# Altium schematic symbol library Battery_Management.SchLib: 135 symbols (part 2 of 2)
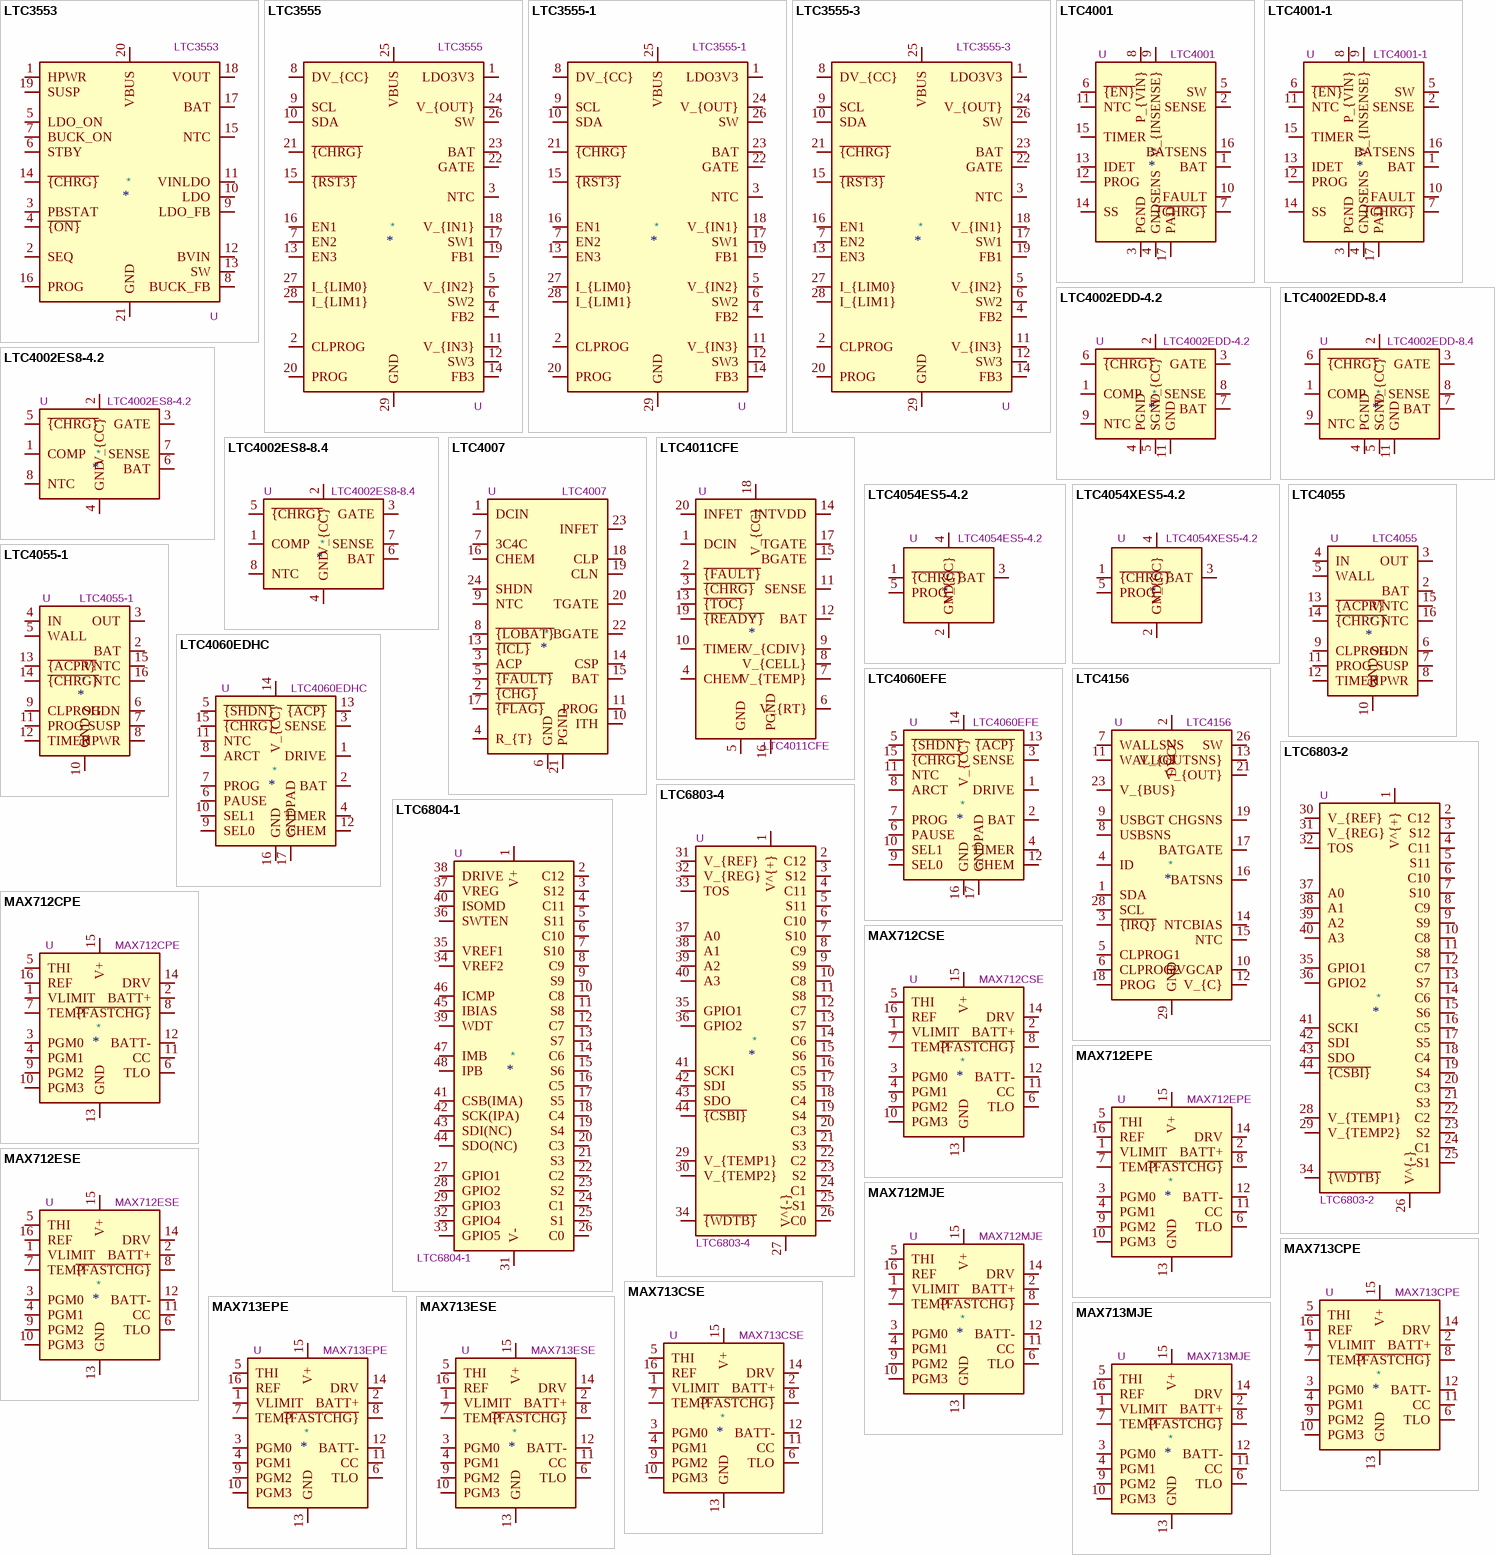
[diagram p5: symbols LTC3553 to MAX713MJE]

## MAX713EPE
designator *  value MAX713EPE  Reference: U
ki_keywords: battery charger controller; ki_description: Fast-charge Nickel Cadmium (NiCd) from a DC source, -40 to +85 Degree Celsius, PDIP-16; ki_fp_filters: DIP*W7.62mm*; Footprint: Package_DIP:DIP-16_W7.62mm; Datasheet: https://datasheets.maximintegrated.com/en/ds/MAX712-MAX713.pdf
pins: 1 VLIMIT, 2 BATT+, 3 PGM0, 4 PGM1, 5 THI, 6 TLO, 7 TEMP, 8 ~{{FASTCHG}}, 9 PGM2, 10 PGM3, 11 CC, 12 BATT-, 13 GND, 14 DRV, 15 V+, 16 REF

## MAX713ESE
designator *  value MAX713ESE  Reference: U
ki_keywords: battery charger controller; ki_description: Fast-charge Nickel Cadmium (NiCd) from a DC source, -40 to +85 Degree Celsius, SOIC-16; ki_fp_filters: SOIC*3.9x9.9mm*P1.27mm*; Footprint: Package_SO:SOIC-16_3.9x9.9mm_P1.27mm; Datasheet: https://datasheets.maximintegrated.com/en/ds/MAX712-MAX713.pdf
pins: 1 VLIMIT, 2 BATT+, 3 PGM0, 4 PGM1, 5 THI, 6 TLO, 7 TEMP, 8 ~{{FASTCHG}}, 9 PGM2, 10 PGM3, 11 CC, 12 BATT-, 13 GND, 14 DRV, 15 V+, 16 REF

## MAX713MJE
designator *  value MAX713MJE  Reference: U
ki_keywords: battery charger controller; ki_description: Fast-charge Nickel Cadmium (NiCd) from a DC source, ceramic, -55 to +125 Degree Celsius, PDIP-16; ki_fp_filters: DIP*W7.62mm*; Footprint: Package_DIP:DIP-16_W7.62mm; Datasheet: https://datasheets.maximintegrated.com/en/ds/MAX712-MAX713.pdf
pins: 1 VLIMIT, 2 BATT+, 3 PGM0, 4 PGM1, 5 THI, 6 TLO, 7 TEMP, 8 ~{{FASTCHG}}, 9 PGM2, 10 PGM3, 11 CC, 12 BATT-, 13 GND, 14 DRV, 15 V+, 16 REF

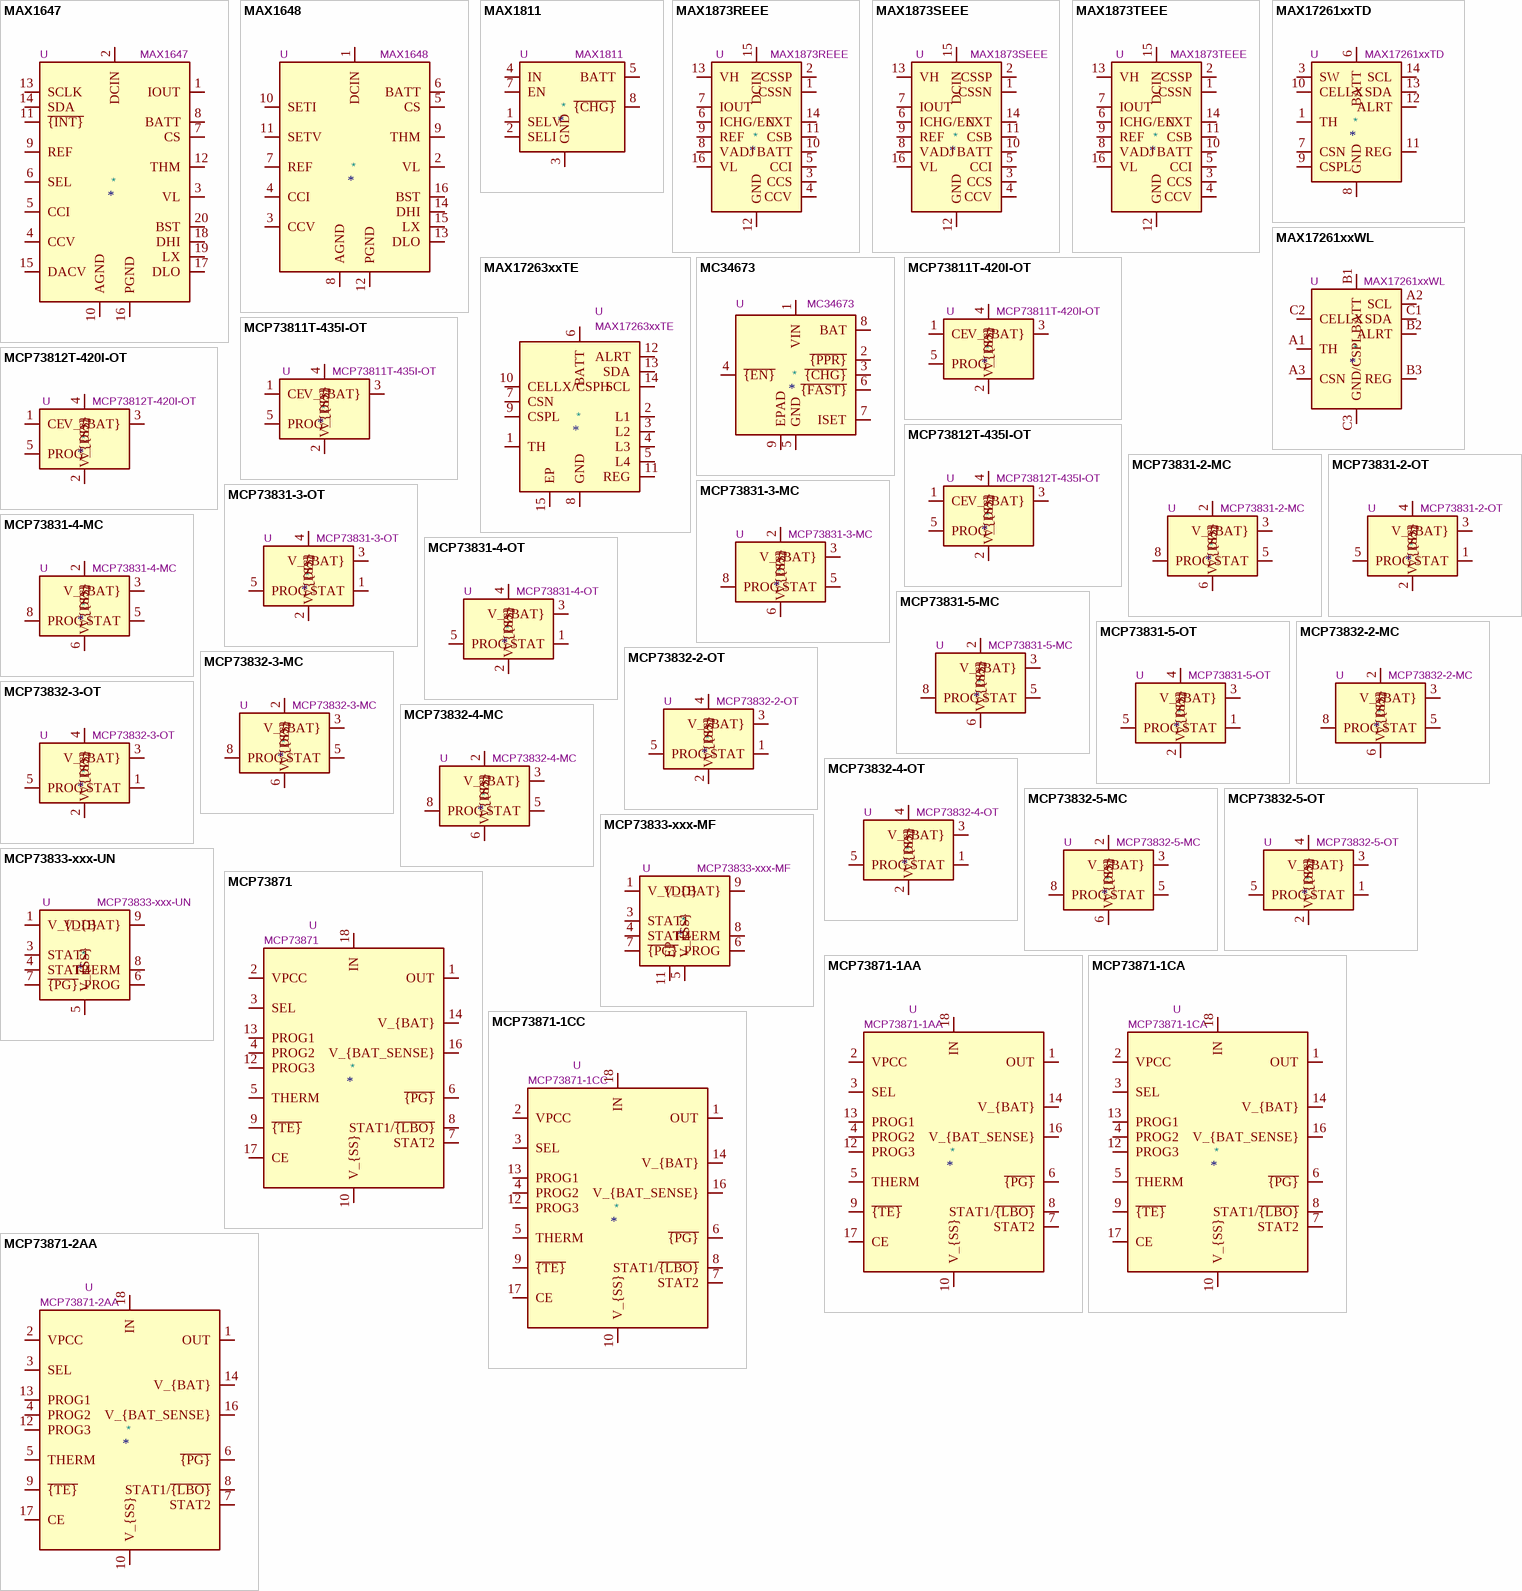
[diagram p3: symbols MAX1647 to MCP73871-2AA]

## MAX1647
designator *  value MAX1647  Reference: U
ki_keywords: battery charger; ki_description: Smart Battery Charger, 18V battery, 28V input, SMBus serial interface; ki_fp_filters: SSOP*5.3x7.2mm*P0.65mm*; Footprint: Package_SO:SSOP-20_5.3x7.2mm_P0.65mm; Datasheet: https://datasheets.maximintegrated.com/en/ds/MAX1647-MAX1648.pdf
pins: 1 IOUT, 2 DCIN, 3 VL, 4 CCV, 5 CCI, 6 SEL, 7 CS, 8 BATT, 9 REF, 10 AGND, 11 ~{{INT}}, 12 THM, 13 SCLK, 14 SDA, 15 DACV, 16 PGND, 17 DLO, 18 DHI, 19 LX, 20 BST

## MAX1648
designator *  value MAX1648  Reference: U
ki_keywords: battery charger; ki_description: Smart Battery Charger, 18V battery, 28V input, standalone; ki_fp_filters: SOIC*3.9x9.9mm*P1.27mm*; Footprint: Package_SO:SOIC-16_3.9x9.9mm_P1.27mm; Datasheet: https://datasheets.maximintegrated.com/en/ds/MAX1647-MAX1648.pdf
pins: 1 DCIN, 2 VL, 3 CCV, 4 CCI, 5 CS, 6 BATT, 7 REF, 8 AGND, 9 THM, 10 SETI, 11 SETV, 12 PGND, 13 DLO, 14 DHI, 15 LX, 16 BST

## MAX1811
designator *  value MAX1811  Reference: U
ki_keywords: USB Battery Charger; ki_description: USB Powered Li+ Charger, 4.1V/4.2V battery, 5V input, 0.1/0.5A charging current; ki_fp_filters: SOIC*; Footprint: Package_SO:SOIC-8_3.9x4.9mm_P1.27mm; Datasheet: https://datasheets.maximintegrated.com/en/ds/MAX1811.pdf
pins: 1 SELV, 2 SELI, 3 GND, 4 IN, 5 BATT, 6 GND hidden, 7 EN, 8 ~{{CHG}}

## MAX1873REEE
designator *  value MAX1873REEE  Reference: U
ki_keywords: li-ion battery charger; ki_description: Charger for 2 lithium-ion (Li+), 5/6 NickelCadium (NiCD) cells or 5/6 NickelMetalHydride (NiMH), 9 to 28V VDD, -40 to +85 degree Celsius, QSOP-16; ki_fp_filters: QSOP*3.9x4.9mm*P0.635mm*; Footprint: Package_SO:QSOP-16_3.9x4.9mm_P0.635mm; Datasheet: https://datasheets.maximintegrated.com/en/ds/MAX1873.pdf
pins: 1 CSSN, 2 CSSP, 3 CCS, 4 CCV, 5 CCI, 6 ICHG/EN, 7 IOUT, 8 VADJ, 9 REF, 10 BATT, 11 CSB, 12 GND, 13 VH, 14 EXT, 15 DCIN, 16 VL

## MAX1873SEEE
designator *  value MAX1873SEEE  Reference: U
ki_keywords: li-ion battery charger; ki_description: Charger for 3 lithium-ion (Li+), 7/9 NickelCadium (NiCD) cells or 7/9 NickelMetalHydride (NiMH), 9 to 28V VDD, -40 to +85 degree Celsius, QSOP-16; ki_fp_filters: QSOP*3.9x4.9mm*P0.635mm*; Footprint: Package_SO:QSOP-16_3.9x4.9mm_P0.635mm; Datasheet: https://datasheets.maximintegrated.com/en/ds/MAX1873.pdf
pins: 1 CSSN, 2 CSSP, 3 CCS, 4 CCV, 5 CCI, 6 ICHG/EN, 7 IOUT, 8 VADJ, 9 REF, 10 BATT, 11 CSB, 12 GND, 13 VH, 14 EXT, 15 DCIN, 16 VL

## MAX1873TEEE
designator *  value MAX1873TEEE  Reference: U
ki_keywords: li-ion battery charger; ki_description: Charger for 4 lithium-ion (Li+), 10 NickelCadium (NiCD) cells or 10 NickelMetalHydride (NiMH), 9 to 28V VDD, -40 to +85 degree Celsius, QSOP-16; ki_fp_filters: QSOP*3.9x4.9mm*P0.635mm*; Footprint: Package_SO:QSOP-16_3.9x4.9mm_P0.635mm; Datasheet: https://datasheets.maximintegrated.com/en/ds/MAX1873.pdf
pins: 1 CSSN, 2 CSSP, 3 CCS, 4 CCV, 5 CCI, 6 ICHG/EN, 7 IOUT, 8 VADJ, 9 REF, 10 BATT, 11 CSB, 12 GND, 13 VH, 14 EXT, 15 DCIN, 16 VL

## MAX17261xxTD
designator *  value MAX17261xxTD  Reference: U
ki_keywords: Charge pump battery; ki_description: 5.1μA Multi-Cell Fuel Gauge with ModelGauge m5 EZ, TDFN-14; ki_fp_filters: TDFN*1EP*3x3mm*P0.4mm*; Footprint: Package_DFN_QFN:TDFN-14-1EP_3x3mm_P0.4mm_EP1.78x2.35mm; Datasheet: https://datasheets.maximintegrated.com/en/ds/MAX17261.pdf
pins: 1 TH, 2 NC hidden, 3 SW, 4 NC hidden, 5 NC hidden, 6 BATT, 7 CSN, 8 GND, 9 CSPL, 10 CELLX, 11 REG, 12 ALRT, 13 SDA, 14 SCL, 15 GND hidden

## MAX17261xxWL
designator *  value MAX17261xxWL  Reference: U
ki_keywords: Charge pump battery; ki_description: 5.1μA Multi-Cell Fuel Gauge with ModelGauge m5 EZ, WLP-9; ki_fp_filters: Maxim*WLP*1.595x1.415*Layout3x3*P0.4mm*; Footprint: Package_BGA:Maxim_WLP-9_1.595x1.415_Layout3x3_P0.4mm_Ball0.27mm_Pad0.25mm_NSMD; Datasheet: https://datasheets.maximintegrated.com/en/ds/MAX17261.pdf
pins: A1 TH, A2 SCL, A3 CSN, B1 BATT, B2 ALRT, B3 REG, C1 SDA, C2 CELLX, C3 GND/CSPL

## MAX17263xxTE
designator *  value MAX17263xxTE  Reference: U
ki_keywords: fuel-gauge; ki_description: Single/Multi-Cell Fuel Gauge, ModelGauge m5 EZ, Integrated LED Control, TDFN-14; ki_fp_filters: DFN*1EP*3x3mm*P0.4mm*; Footprint: Package_DFN_QFN:DFN-14-1EP_3x3mm_P0.4mm_EP1.78x2.35mm; Datasheet: https://datasheets.maximintegrated.com/en/ds/MAX17263.pdf
pins: 1 TH, 2 L1, 3 L2, 4 L3, 5 L4, 6 BATT, 7 CSN, 8 GND, 9 CSPL, 10 CELLX/CSPH, 11 REG, 12 ALRT, 13 SDA, 14 SCL, 15 EP

## MC34673
designator *  value MC34673  Reference: U
ki_keywords: Lithium-Ion Battery Charger; ki_description: High Input Voltage 1.2A Charger for Single-cell Li-Ion Batteries, UDFN-8; ki_fp_filters: DFN*3x2mm*P0.5mm*; Footprint: Package_DFN_QFN:DFN-8-1EP_3x2mm_P0.5mm_EP1.75x1.45mm; Datasheet: http://www.nxp.com/docs/en/data-sheet/MC34673.pdf
pins: 1 VIN, 2 ~{{PPR}}, 3 ~{{CHG}}, 4 ~{{EN}}, 5 GND, 6 ~{{FAST}}, 7 ISET, 8 BAT, 9 EPAD

## MCP73811T-420I-OT
designator *  value MCP73811T-420I-OT  Reference: U
ki_keywords: Lithium-Ion Battery Charger; ki_description: Simple, Miniature Single-Cell, Fully Integrated Li-Ion / Li-Polymer Charge Management Controllers, 85mA/450mA, 4.2V, SOT23-5; ki_fp_filters: SOT?23*; Footprint: Package_TO_SOT_SMD:SOT-23-5; Datasheet: http://ww1.microchip.com/downloads/en/DeviceDoc/22036b.pdf
pins: 1 CE, 2 V_{SS}, 3 V_{BAT}, 4 V_{DD}, 5 PROG

## MCP73811T-435I-OT
designator *  value MCP73811T-435I-OT  Reference: U
ki_keywords: Lithium-Ion Battery Charger; ki_description: Simple, Miniature Single-Cell, Fully Integrated Li-Ion / Li-Polymer Charge Management Controllers, 85mA/450mA, 4.35V, SOT23-5; ki_fp_filters: SOT?23*; Footprint: Package_TO_SOT_SMD:SOT-23-5; Datasheet: http://ww1.microchip.com/downloads/en/DeviceDoc/22036b.pdf
pins: 1 CE, 2 V_{SS}, 3 V_{BAT}, 4 V_{DD}, 5 PROG

## MCP73812T-420I-OT
designator *  value MCP73812T-420I-OT  Reference: U
ki_keywords: Lithium-Ion Battery Charger; ki_description: Simple, Miniature Single-Cell, Fully Integrated Li-Ion / Li-Polymer Charge Management Controllers, 50mA-500mA, 4.2V, SOT23-5; ki_fp_filters: SOT?23*; Footprint: Package_TO_SOT_SMD:SOT-23-5; Datasheet: http://ww1.microchip.com/downloads/en/DeviceDoc/22036b.pdf
pins: 1 CE, 2 V_{SS}, 3 V_{BAT}, 4 V_{DD}, 5 PROG

## MCP73812T-435I-OT
designator *  value MCP73812T-435I-OT  Reference: U
ki_keywords: Lithium-Ion Battery Charger; ki_description: Simple, Miniature Single-Cell, Fully Integrated Li-Ion / Li-Polymer Charge Management Controllers, 50mA-500mA, 4.35V, SOT23-5; ki_fp_filters: SOT?23*; Footprint: Package_TO_SOT_SMD:SOT-23-5; Datasheet: http://ww1.microchip.com/downloads/en/DeviceDoc/22036b.pdf
pins: 1 CE, 2 V_{SS}, 3 V_{BAT}, 4 V_{DD}, 5 PROG

## MCP73831-2-MC
designator *  value MCP73831-2-MC  Reference: U
ki_keywords: battery charger lithium; ki_description: Single cell, Li-Ion/Li-Po charge management controller, 4.20V, Tri-State Status Output, in DFN-8 package; ki_fp_filters: DFN*3x2mm*P0.5mm*EP1.7x1.4mm*; Footprint: Package_DFN_QFN:DFN-8-1EP_3x2mm_P0.5mm_EP1.7x1.4mm; Datasheet: http://ww1.microchip.com/downloads/en/DeviceDoc/20001984g.pdf
pins: 1 V_{DD} hidden, 2 V_{DD}, 3 V_{BAT}, 4 V_{BAT} hidden, 5 STAT, 6 V_{SS}, 7 NC hidden, 8 PROG

## MCP73831-2-OT
designator *  value MCP73831-2-OT  Reference: U
ki_keywords: battery charger lithium; ki_description: Single cell, Li-Ion/Li-Po charge management controller, 4.20V, Tri-State Status Output, in SOT23-5 package; ki_fp_filters: SOT?23*; Footprint: Package_TO_SOT_SMD:SOT-23-5; Datasheet: http://ww1.microchip.com/downloads/en/DeviceDoc/20001984g.pdf
pins: 1 STAT, 2 V_{SS}, 3 V_{BAT}, 4 V_{DD}, 5 PROG

## MCP73831-3-MC
designator *  value MCP73831-3-MC  Reference: U
ki_keywords: battery charger lithium; ki_description: Single cell, Li-Ion/Li-Po charge management controller, 4.35V, Tri-State Status Output, in DFN-8 package; ki_fp_filters: DFN*3x2mm*P0.5mm*EP1.7x1.4mm*; Footprint: Package_DFN_QFN:DFN-8-1EP_3x2mm_P0.5mm_EP1.7x1.4mm; Datasheet: http://ww1.microchip.com/downloads/en/DeviceDoc/20001984g.pdf
pins: 1 V_{DD} hidden, 2 V_{DD}, 3 V_{BAT}, 4 V_{BAT} hidden, 5 STAT, 6 V_{SS}, 7 NC hidden, 8 PROG

## MCP73831-3-OT
designator *  value MCP73831-3-OT  Reference: U
ki_keywords: battery charger lithium; ki_description: Single cell, Li-Ion/Li-Po charge management controller, 4.35V, Tri-State Status Output, in SOT23-5 package; ki_fp_filters: SOT?23*; Footprint: Package_TO_SOT_SMD:SOT-23-5; Datasheet: http://ww1.microchip.com/downloads/en/DeviceDoc/20001984g.pdf
pins: 1 STAT, 2 V_{SS}, 3 V_{BAT}, 4 V_{DD}, 5 PROG

## MCP73831-4-MC
designator *  value MCP73831-4-MC  Reference: U
ki_keywords: battery charger lithium; ki_description: Single cell, Li-Ion/Li-Po charge management controller, 4.40V, Tri-State Status Output, in DFN-8 package; ki_fp_filters: DFN*3x2mm*P0.5mm*EP1.7x1.4mm*; Footprint: Package_DFN_QFN:DFN-8-1EP_3x2mm_P0.5mm_EP1.7x1.4mm; Datasheet: http://ww1.microchip.com/downloads/en/DeviceDoc/20001984g.pdf
pins: 1 V_{DD} hidden, 2 V_{DD}, 3 V_{BAT}, 4 V_{BAT} hidden, 5 STAT, 6 V_{SS}, 7 NC hidden, 8 PROG

## MCP73831-4-OT
designator *  value MCP73831-4-OT  Reference: U
ki_keywords: battery charger lithium; ki_description: Single cell, Li-Ion/Li-Po charge management controller, 4.40V, Tri-State Status Output, in SOT23-5 package; ki_fp_filters: SOT?23*; Footprint: Package_TO_SOT_SMD:SOT-23-5; Datasheet: http://ww1.microchip.com/downloads/en/DeviceDoc/20001984g.pdf
pins: 1 STAT, 2 V_{SS}, 3 V_{BAT}, 4 V_{DD}, 5 PROG

## MCP73831-5-MC
designator *  value MCP73831-5-MC  Reference: U
ki_keywords: battery charger lithium; ki_description: Single cell, Li-Ion/Li-Po charge management controller, 4.50V, Tri-State Status Output, in DFN-8 package; ki_fp_filters: DFN*3x2mm*P0.5mm*EP1.7x1.4mm*; Footprint: Package_DFN_QFN:DFN-8-1EP_3x2mm_P0.5mm_EP1.7x1.4mm; Datasheet: http://ww1.microchip.com/downloads/en/DeviceDoc/20001984g.pdf
pins: 1 V_{DD} hidden, 2 V_{DD}, 3 V_{BAT}, 4 V_{BAT} hidden, 5 STAT, 6 V_{SS}, 7 NC hidden, 8 PROG

## MCP73831-5-OT
designator *  value MCP73831-5-OT  Reference: U
ki_keywords: battery charger lithium; ki_description: Single cell, Li-Ion/Li-Po charge management controller, 4.50V, Tri-State Status Output, in SOT23-5 package; ki_fp_filters: SOT?23*; Footprint: Package_TO_SOT_SMD:SOT-23-5; Datasheet: http://ww1.microchip.com/downloads/en/DeviceDoc/20001984g.pdf
pins: 1 STAT, 2 V_{SS}, 3 V_{BAT}, 4 V_{DD}, 5 PROG

## MCP73832-2-MC
designator *  value MCP73832-2-MC  Reference: U
ki_keywords: battery charger lithium; ki_description: Single cell, Li-Ion/Li-Po charge management controller, 4.20V, Open-Drain Status Output, in DFN-8 package; ki_fp_filters: DFN*3x2mm*P0.5mm*EP1.7x1.4mm*; Footprint: Package_DFN_QFN:DFN-8-1EP_3x2mm_P0.5mm_EP1.7x1.4mm; Datasheet: http://ww1.microchip.com/downloads/en/DeviceDoc/20001984g.pdf
pins: 1 V_{DD} hidden, 2 V_{DD}, 3 V_{BAT}, 4 V_{BAT} hidden, 5 STAT, 6 V_{SS}, 7 NC hidden, 8 PROG

## MCP73832-2-OT
designator *  value MCP73832-2-OT  Reference: U
ki_keywords: battery charger lithium; ki_description: Single cell, Li-Ion/Li-Po charge management controller, 4.20V, Open-Drain Status Output, in SOT23-5 package; ki_fp_filters: SOT?23*; Footprint: Package_TO_SOT_SMD:SOT-23-5; Datasheet: http://ww1.microchip.com/downloads/en/DeviceDoc/20001984g.pdf
pins: 1 STAT, 2 V_{SS}, 3 V_{BAT}, 4 V_{DD}, 5 PROG

## MCP73832-3-MC
designator *  value MCP73832-3-MC  Reference: U
ki_keywords: battery charger lithium; ki_description: Single cell, Li-Ion/Li-Po charge management controller, 4.35V, Open-Drain Status Output, in DFN-8 package; ki_fp_filters: DFN*3x2mm*P0.5mm*EP1.7x1.4mm*; Footprint: Package_DFN_QFN:DFN-8-1EP_3x2mm_P0.5mm_EP1.7x1.4mm; Datasheet: http://ww1.microchip.com/downloads/en/DeviceDoc/20001984g.pdf
pins: 1 V_{DD} hidden, 2 V_{DD}, 3 V_{BAT}, 4 V_{BAT} hidden, 5 STAT, 6 V_{SS}, 7 NC hidden, 8 PROG

## MCP73832-3-OT
designator *  value MCP73832-3-OT  Reference: U
ki_keywords: battery charger lithium; ki_description: Single cell, Li-Ion/Li-Po charge management controller, 4.35V, Open-Drain Status Output, in SOT23-5 package; ki_fp_filters: SOT?23*; Footprint: Package_TO_SOT_SMD:SOT-23-5; Datasheet: http://ww1.microchip.com/downloads/en/DeviceDoc/20001984g.pdf
pins: 1 STAT, 2 V_{SS}, 3 V_{BAT}, 4 V_{DD}, 5 PROG

## MCP73832-4-MC
designator *  value MCP73832-4-MC  Reference: U
ki_keywords: battery charger lithium; ki_description: Single cell, Li-Ion/Li-Po charge management controller, 4.40V, Open-Drain Status Output, in DFN-8 package; ki_fp_filters: DFN*3x2mm*P0.5mm*EP1.7x1.4mm*; Footprint: Package_DFN_QFN:DFN-8-1EP_3x2mm_P0.5mm_EP1.7x1.4mm; Datasheet: http://ww1.microchip.com/downloads/en/DeviceDoc/20001984g.pdf
pins: 1 V_{DD} hidden, 2 V_{DD}, 3 V_{BAT}, 4 V_{BAT} hidden, 5 STAT, 6 V_{SS}, 7 NC hidden, 8 PROG

## MCP73832-4-OT
designator *  value MCP73832-4-OT  Reference: U
ki_keywords: battery charger lithium; ki_description: Single cell, Li-Ion/Li-Po charge management controller, 4.40V, Open-Drain Status Output, in SOT23-5 package; ki_fp_filters: SOT?23*; Footprint: Package_TO_SOT_SMD:SOT-23-5; Datasheet: http://ww1.microchip.com/downloads/en/DeviceDoc/20001984g.pdf
pins: 1 STAT, 2 V_{SS}, 3 V_{BAT}, 4 V_{DD}, 5 PROG

## MCP73832-5-MC
designator *  value MCP73832-5-MC  Reference: U
ki_keywords: battery charger lithium; ki_description: Single cell, Li-Ion/Li-Po charge management controller, 4.50V, Open-Drain Status Output, in DFN-8 package; ki_fp_filters: DFN*3x2mm*P0.5mm*EP1.7x1.4mm*; Footprint: Package_DFN_QFN:DFN-8-1EP_3x2mm_P0.5mm_EP1.7x1.4mm; Datasheet: http://ww1.microchip.com/downloads/en/DeviceDoc/20001984g.pdf
pins: 1 V_{DD} hidden, 2 V_{DD}, 3 V_{BAT}, 4 V_{BAT} hidden, 5 STAT, 6 V_{SS}, 7 NC hidden, 8 PROG

## MCP73832-5-OT
designator *  value MCP73832-5-OT  Reference: U
ki_keywords: battery charger lithium; ki_description: Single cell, Li-Ion/Li-Po charge management controller, 4.50V, Open-Drain Status Output, in SOT23-5 package; ki_fp_filters: SOT?23*; Footprint: Package_TO_SOT_SMD:SOT-23-5; Datasheet: http://ww1.microchip.com/downloads/en/DeviceDoc/20001984g.pdf
pins: 1 STAT, 2 V_{SS}, 3 V_{BAT}, 4 V_{DD}, 5 PROG

## MCP73833-xxx-MF
designator *  value MCP73833-xxx-MF  Reference: U
ki_keywords: lithium-ion battery charger; ki_description: Stand-Alone Linear Li-Ion / Li-Polymer Charge Management Controller, DFN-10; ki_fp_filters: DFN*1EP*3x3mm*P0.5mm*EP1.58x2.35mm*; Footprint: Package_DFN_QFN:DFN-10-1EP_3x3mm_P0.5mm_EP1.58x2.35mm; Datasheet: https://ww1.microchip.com/downloads/aemDocuments/documents/OTH/ProductDocuments/DataSheets/22005b.pdf
pins: 1 V_{DD}, 2 V_{DD} hidden, 3 STAT1, 4 STAT2, 5 V_{SS}, 6 PROG, 7 ~{{PG}}, 8 THERM, 9 V_{BAT}, 10 V_{BAT} hidden, 11 EP

## MCP73833-xxx-UN
designator *  value MCP73833-xxx-UN  Reference: U
ki_keywords: lithium-ion battery charger; ki_description: Stand-Alone Linear Li-Ion / Li-Polymer Charge Management Controller, MSOP-10; ki_fp_filters: MSOP*3x3mm*P0.5mm*; Footprint: Package_SO:MSOP-10_3x3mm_P0.5mm; Datasheet: https://ww1.microchip.com/downloads/aemDocuments/documents/OTH/ProductDocuments/DataSheets/22005b.pdf
pins: 1 V_{DD}, 2 V_{DD} hidden, 3 STAT1, 4 STAT2, 5 V_{SS}, 6 PROG, 7 ~{{PG}}, 8 THERM, 9 V_{BAT}, 10 V_{BAT} hidden

## MCP73871
designator *  value MCP73871  Reference: U
ki_keywords: battery charger lithium; ki_description: Single cell, Li-Ion/Li-Po charge management controller; ki_fp_filters: QFN*4x4mm*P0.5mm*; Footprint: Package_DFN_QFN:QFN-20-1EP_4x4mm_P0.5mm_EP2.5x2.5mm; Datasheet: http://www.mouser.com/ds/2/268/22090a-52174.pdf
pins: 1 OUT, 2 VPCC, 3 SEL, 4 PROG2, 5 THERM, 6 ~{{PG}}, 7 STAT2, 8 STAT1/~{{LBO}}, 9 ~{{TE}}, 10 V_{SS}, 11 V_{SS} hidden, 12 PROG3, 13 PROG1, 14 V_{BAT}, 15 V_{BAT} hidden, 16 V_{BAT_SENSE}, 17 CE, 18 IN, 19 IN hidden, 20 OUT hidden, 21 V_{SS} hidden

## MCP73871-1AA
designator *  value MCP73871-1AA  Reference: U
ki_keywords: battery charger lithium; ki_description: Single cell, Li-Ion/Li-Po charge management controller, 4.10V; ki_fp_filters: QFN*4x4mm*P0.5mm*; Footprint: Package_DFN_QFN:QFN-20-1EP_4x4mm_P0.5mm_EP2.5x2.5mm; Datasheet: http://www.mouser.com/ds/2/268/22090a-52174.pdf
pins: 1 OUT, 2 VPCC, 3 SEL, 4 PROG2, 5 THERM, 6 ~{{PG}}, 7 STAT2, 8 STAT1/~{{LBO}}, 9 ~{{TE}}, 10 V_{SS}, 11 V_{SS} hidden, 12 PROG3, 13 PROG1, 14 V_{BAT}, 15 V_{BAT} hidden, 16 V_{BAT_SENSE}, 17 CE, 18 IN, 19 IN hidden, 20 OUT hidden, 21 V_{SS} hidden

## MCP73871-1CA
designator *  value MCP73871-1CA  Reference: U
ki_keywords: battery charger lithium; ki_description: Single cell, Li-Ion/Li-Po charge management controller, 4.10V, 6h safety timer; ki_fp_filters: QFN*4x4mm*P0.5mm*; Footprint: Package_DFN_QFN:QFN-20-1EP_4x4mm_P0.5mm_EP2.5x2.5mm; Datasheet: http://www.mouser.com/ds/2/268/22090a-52174.pdf
pins: 1 OUT, 2 VPCC, 3 SEL, 4 PROG2, 5 THERM, 6 ~{{PG}}, 7 STAT2, 8 STAT1/~{{LBO}}, 9 ~{{TE}}, 10 V_{SS}, 11 V_{SS} hidden, 12 PROG3, 13 PROG1, 14 V_{BAT}, 15 V_{BAT} hidden, 16 V_{BAT_SENSE}, 17 CE, 18 IN, 19 IN hidden, 20 OUT hidden, 21 V_{SS} hidden

## MCP73871-1CC
designator *  value MCP73871-1CC  Reference: U
ki_keywords: battery charger lithium; ki_description: Single cell, Li-Ion/Li-Po charge management controller, 4.10V, 6h safety timer, 3.1V LBO threshold; ki_fp_filters: QFN*4x4mm*P0.5mm*; Footprint: Package_DFN_QFN:QFN-20-1EP_4x4mm_P0.5mm_EP2.5x2.5mm; Datasheet: http://www.mouser.com/ds/2/268/22090a-52174.pdf
pins: 1 OUT, 2 VPCC, 3 SEL, 4 PROG2, 5 THERM, 6 ~{{PG}}, 7 STAT2, 8 STAT1/~{{LBO}}, 9 ~{{TE}}, 10 V_{SS}, 11 V_{SS} hidden, 12 PROG3, 13 PROG1, 14 V_{BAT}, 15 V_{BAT} hidden, 16 V_{BAT_SENSE}, 17 CE, 18 IN, 19 IN hidden, 20 OUT hidden, 21 V_{SS} hidden

## MCP73871-2AA
designator *  value MCP73871-2AA  Reference: U
ki_keywords: battery charger lithium; ki_description: Single cell, Li-Ion/Li-Po charge management controller, 4.20V; ki_fp_filters: QFN*4x4mm*P0.5mm*; Footprint: Package_DFN_QFN:QFN-20-1EP_4x4mm_P0.5mm_EP2.5x2.5mm; Datasheet: http://www.mouser.com/ds/2/268/22090a-52174.pdf
pins: 1 OUT, 2 VPCC, 3 SEL, 4 PROG2, 5 THERM, 6 ~{{PG}}, 7 STAT2, 8 STAT1/~{{LBO}}, 9 ~{{TE}}, 10 V_{SS}, 11 V_{SS} hidden, 12 PROG3, 13 PROG1, 14 V_{BAT}, 15 V_{BAT} hidden, 16 V_{BAT_SENSE}, 17 CE, 18 IN, 19 IN hidden, 20 OUT hidden, 21 V_{SS} hidden

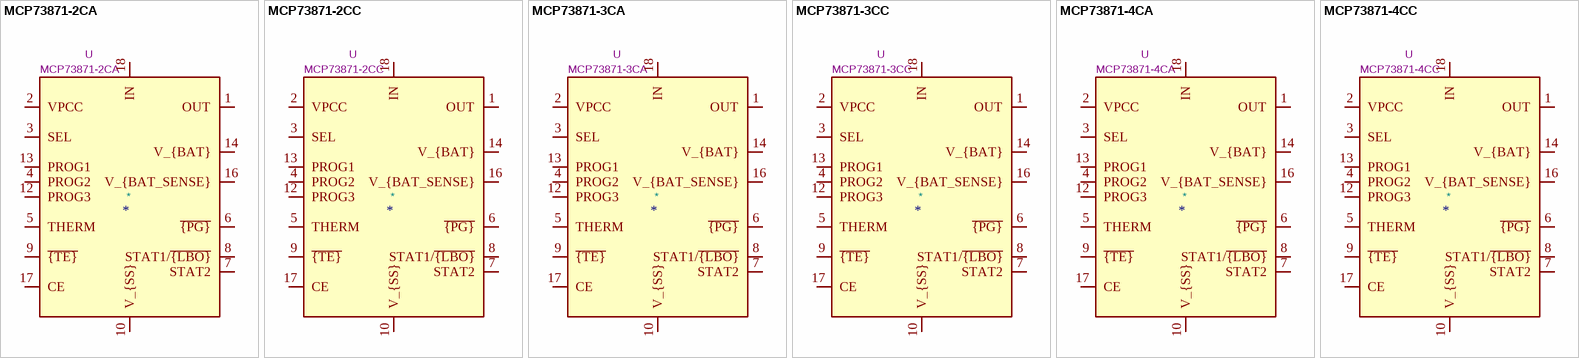
[diagram p4: symbols MCP73871-2CA to MCP73871-4CC]

## MCP73871-2CA
designator *  value MCP73871-2CA  Reference: U
ki_keywords: battery charger lithium; ki_description: Single cell, Li-Ion/Li-Po charge management controller, 4.20V, 6h safety timer; ki_fp_filters: QFN*4x4mm*P0.5mm*; Footprint: Package_DFN_QFN:QFN-20-1EP_4x4mm_P0.5mm_EP2.5x2.5mm; Datasheet: http://www.mouser.com/ds/2/268/22090a-52174.pdf
pins: 1 OUT, 2 VPCC, 3 SEL, 4 PROG2, 5 THERM, 6 ~{{PG}}, 7 STAT2, 8 STAT1/~{{LBO}}, 9 ~{{TE}}, 10 V_{SS}, 11 V_{SS} hidden, 12 PROG3, 13 PROG1, 14 V_{BAT}, 15 V_{BAT} hidden, 16 V_{BAT_SENSE}, 17 CE, 18 IN, 19 IN hidden, 20 OUT hidden, 21 V_{SS} hidden

## MCP73871-2CC
designator *  value MCP73871-2CC  Reference: U
ki_keywords: battery charger lithium; ki_description: Single cell, Li-Ion/Li-Po charge management controller, 4.20V, 6h safety timer, 3.1V LBO threshold; ki_fp_filters: QFN*4x4mm*P0.5mm*; Footprint: Package_DFN_QFN:QFN-20-1EP_4x4mm_P0.5mm_EP2.5x2.5mm; Datasheet: http://www.mouser.com/ds/2/268/22090a-52174.pdf
pins: 1 OUT, 2 VPCC, 3 SEL, 4 PROG2, 5 THERM, 6 ~{{PG}}, 7 STAT2, 8 STAT1/~{{LBO}}, 9 ~{{TE}}, 10 V_{SS}, 11 V_{SS} hidden, 12 PROG3, 13 PROG1, 14 V_{BAT}, 15 V_{BAT} hidden, 16 V_{BAT_SENSE}, 17 CE, 18 IN, 19 IN hidden, 20 OUT hidden, 21 V_{SS} hidden

## MCP73871-3CA
designator *  value MCP73871-3CA  Reference: U
ki_keywords: battery charger lithium; ki_description: Single cell, Li-Ion/Li-Po charge management controller, 4.35V, 6h safety timer; ki_fp_filters: QFN*4x4mm*P0.5mm*; Footprint: Package_DFN_QFN:QFN-20-1EP_4x4mm_P0.5mm_EP2.5x2.5mm; Datasheet: http://www.mouser.com/ds/2/268/22090a-52174.pdf
pins: 1 OUT, 2 VPCC, 3 SEL, 4 PROG2, 5 THERM, 6 ~{{PG}}, 7 STAT2, 8 STAT1/~{{LBO}}, 9 ~{{TE}}, 10 V_{SS}, 11 V_{SS} hidden, 12 PROG3, 13 PROG1, 14 V_{BAT}, 15 V_{BAT} hidden, 16 V_{BAT_SENSE}, 17 CE, 18 IN, 19 IN hidden, 20 OUT hidden, 21 V_{SS} hidden

## MCP73871-3CC
designator *  value MCP73871-3CC  Reference: U
ki_keywords: battery charger lithium; ki_description: Single cell, Li-Ion/Li-Po charge management controller, 4.35V, 6h safety timer, 3.1V LBO threshold; ki_fp_filters: QFN*4x4mm*P0.5mm*; Footprint: Package_DFN_QFN:QFN-20-1EP_4x4mm_P0.5mm_EP2.5x2.5mm; Datasheet: http://www.mouser.com/ds/2/268/22090a-52174.pdf
pins: 1 OUT, 2 VPCC, 3 SEL, 4 PROG2, 5 THERM, 6 ~{{PG}}, 7 STAT2, 8 STAT1/~{{LBO}}, 9 ~{{TE}}, 10 V_{SS}, 11 V_{SS} hidden, 12 PROG3, 13 PROG1, 14 V_{BAT}, 15 V_{BAT} hidden, 16 V_{BAT_SENSE}, 17 CE, 18 IN, 19 IN hidden, 20 OUT hidden, 21 V_{SS} hidden

## MCP73871-4CA
designator *  value MCP73871-4CA  Reference: U
ki_keywords: battery charger lithium; ki_description: Single cell, Li-Ion/Li-Po charge management controller, 4.40V, 6h safety timer; ki_fp_filters: QFN*4x4mm*P0.5mm*; Footprint: Package_DFN_QFN:QFN-20-1EP_4x4mm_P0.5mm_EP2.5x2.5mm; Datasheet: http://www.mouser.com/ds/2/268/22090a-52174.pdf
pins: 1 OUT, 2 VPCC, 3 SEL, 4 PROG2, 5 THERM, 6 ~{{PG}}, 7 STAT2, 8 STAT1/~{{LBO}}, 9 ~{{TE}}, 10 V_{SS}, 11 V_{SS} hidden, 12 PROG3, 13 PROG1, 14 V_{BAT}, 15 V_{BAT} hidden, 16 V_{BAT_SENSE}, 17 CE, 18 IN, 19 IN hidden, 20 OUT hidden, 21 V_{SS} hidden

## MCP73871-4CC
designator *  value MCP73871-4CC  Reference: U
ki_keywords: battery charger lithium; ki_description: Single cell, Li-Ion/Li-Po charge management controller, 4.40V, 6h safety timer, 3.1V LBO threshold; ki_fp_filters: QFN*4x4mm*P0.5mm*; Footprint: Package_DFN_QFN:QFN-20-1EP_4x4mm_P0.5mm_EP2.5x2.5mm; Datasheet: http://www.mouser.com/ds/2/268/22090a-52174.pdf
pins: 1 OUT, 2 VPCC, 3 SEL, 4 PROG2, 5 THERM, 6 ~{{PG}}, 7 STAT2, 8 STAT1/~{{LBO}}, 9 ~{{TE}}, 10 V_{SS}, 11 V_{SS} hidden, 12 PROG3, 13 PROG1, 14 V_{BAT}, 15 V_{BAT} hidden, 16 V_{BAT_SENSE}, 17 CE, 18 IN, 19 IN hidden, 20 OUT hidden, 21 V_{SS} hidden